# Altium footprint library PcbLib.PcbLib: 41 footprints (part 1 of 3)
Each footprint in its own frame and in the unit in brackets; x right, y up, seen from the top. Pads: shape width x height; smd on the part's side, far side on the other; paste and mask are expansions set on the pad; w line width, h text height; cw(c..) or ccw(c..) is an arc to the next point about the centre after c.
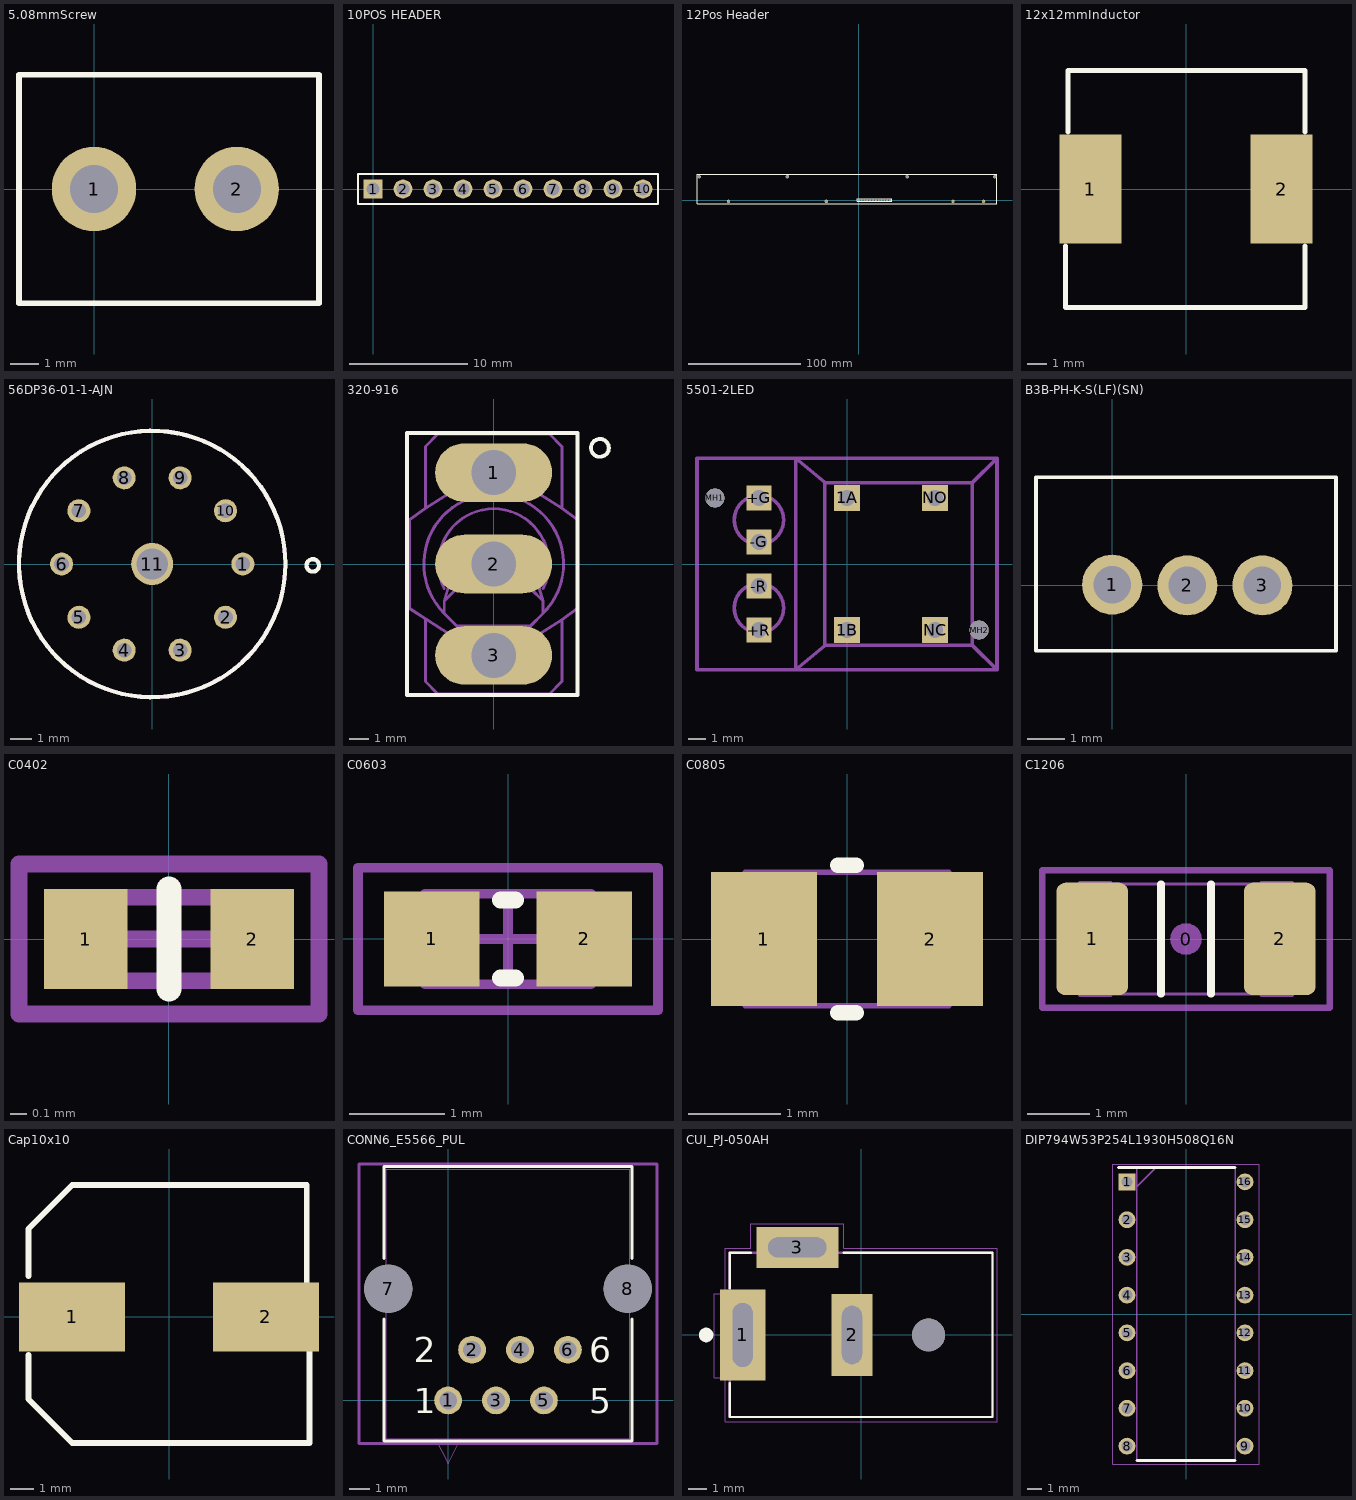
[diagram p0: the footprints below, top view; thin cyan lines are the x and y axes]

## 5.08mmScrew [mm]
pads (2):
  round 3 hole 1.7: 1(0,0) 2(5.08,0)
Top Overlay:
  lines w0.2: -2.667,-4.064 8.001,-4.064 8.001,4.064 -2.667,4.064 -2.667,-2.159 -2.667,-4.064
3D body "Schraubklemme_Blau_300V_16A_2P.stp": height 10.5, standoff -3.5, extent -2.668,-3.887 7.992,4.113

## 10POS HEADER [mm] "Connector; Header; 10 Position"
pads (10):
  rect 1.6x1.6 hole 1.1: 1(0,0)
  round 1.6 hole 1.1: 2(2.54,0) 3(5.08,0) 4(7.62,0) 5(10.16,0) 6(12.7,0) 7(15.24,0) 8(17.78,0) 9(20.32,0) 10(22.86,0)
Top Overlay:
  lines w0.2: -1.27,-1.27 -1.27,1.27 0.635,1.27 24.13,1.27 24.13,-1.27 -1.27,-1.27
3D body "Pin Header 1x10 TH Pitch 2.54mm.stp": height 9.5, standoff -3.2, extent -1.27,-1.27 24.13,1.27

## 12Pos Header [mm] "Connector; Header; 12 Position"
pads (20):
  rect 1.5x1.5 hole 0.9: 1(0,0)
  round 1.5 hole 0.9: 2(2.54,0) 3(5.08,0) 4(7.62,0) 5(10.16,0) 6(12.7,0) 7(15.24,0) 8(17.78,0) 9(20.32,0) 10(22.86,0) 11(25.4,0) 12(27.94,0)
  round 3 hole 2: ""(-141.883,20.841) ""(-115.883,-1.175) ""(-63.529,20.841) ""(-28.821,-1.175) ""(43.188,20.841) ""(83.963,-1.175) ""(111.117,-1.175) ""(121.117,20.841)
Top Overlay:
  lines w0.2: -143.891,-3.175 -143.891,5.715 -143.891,22.86 123.063,22.86 123.063,-3.175 -143.891,-3.175 ; -1.27,-1.27 -1.27,1.27 0.635,1.27 29.21,1.27 29.21,-1.27 -1.27,-1.27
3D body "button.step": height 18.6, standoff -0.5, extent -143.88,-3.16 123.12,22.856
3D body "Pin Header 1x12 TH Pitch 2.54mm.stp": height 9.5, standoff -3.2, extent -1.27,-1.27 29.21,1.27

## 12x12mmInductor [mm]
pads (2):
  rect 3.2x5.6 smd: 1(-4.95,0) 2(4.9,0)
Top Overlay:
  lines w0.254: -6.223,-2.921 -6.223,-6.096 6.096,-6.096 6.096,-2.921 ; -6.096,2.921 -6.096,6.096 6.096,6.096 6.096,2.921
3D body "WE-PD-1210.stp": height 10.43, standoff 0.05, extent -6,-6 6,6

## 56DP36-01-1-AJN [mm]
pads (11):
  round 1.1 hole 0.7: 1(4.32,0) 2(3.495,-2.539) 3(1.335,-4.109) 4(-1.335,-4.109) 5(-3.495,-2.539) 6(-4.32,0) 7(-3.495,2.539) 8(-1.335,4.109) 9(1.335,4.109) 10(3.495,2.539)
  round 2 hole 1.5: 11(0,0)
Top Overlay:
  circle w0.2: c7.655,-0.068 r0.297
  circle w0.2: c0,0 r6.35
Mechanical 13:
  circle w0.2: c0,0 r6.35
3D body "User Library-56 Series_Grayhill_Rotary Switch.STEP": height 25.59, standoff -2.65, extent -6.375,-6.35 6.375,6.35

## 320-916 [mil] "320-916"
pads (3):
  oval 237x118.5 / inner round 60 / far side oval 237x118.5 hole 90.55: 1(0,185.04) 2(0,0) 3(0,-185.04)
Top Overlay:
  circle w7.87: c215,235 r18.03
  lines w7.87: -175,-265 170,-265 170,265 -175,265 -175,30 -175,-265
Mechanical 3:
  lines w6: -138,-111 0,-200 138,-113 ; -138,113 0,200 138,113 ; -100,-50 cw(c0,0) 100,-50 ; -100,-100 cw(c0,0) 100,-100 ; -100,-100 -75,-125 75,-125 100,-100 ; -100,-100 -100,-75 ; -100,-75 -75,-50 75,-50 100,-75 ; -100,-75 -63,50 63,50 100,-75 ; 100,-100 100,-75
Mechanical 7:
  lines w6: -170,-90 -170,90 -138,113 -138,238 -113,263 113,263 138,238 138,113 170,90 170,-90 138,-113 138,-238 113,-263 -113,-263 -138,-238 -138,-111 -170,-90
3D body "5636ab.stp": height 1236.15, standoff -104.33, extent -166.6,-259.84 166.6,259.85

## 5501-2LED [mil] "5501-2LED"
pads (10):
  rect 59.06x59.06 / inner rect 60x60 / far side rect 59.06x59.06 hole 35.43: 1A(0,150) 1B(0,-150) NC(200,-150) NO(200,150)
  rect 56x56 / inner rect 60x60 / far side rect 56x56 hole 35.43: +G(-200,150) +R(-200,-150) -G(-200,50) -R(-200,-50)
  round 43.31 hole 43.31 unplated: MH1(-300,150) MH2(300,-150)
Mechanical 3:
  circle w8: c-200,100 r55.9
  circle w8: c-200,-100 r55.9
Mechanical 7:
  lines w8: -225,-150 cw(c-200,-100) -225,-50 ; -225,50 cw(c-200,100) -225,150 ; -175,-150 ccw(c-200,-100) -175,-50 ; -175,50 ccw(c-200,100) -175,150 ; -116.73,-240.16 -340.74,-240.16 -340.74,240.16 -116.73,240.16 ; -116.73,-240.16 340.74,-240.16 ; -116.73,-240.16 -116.73,240.16 ; -116.73,-240.16 -50,-185 ; -116.73,240.16 340.74,240.16 ; -116.73,240.16 -50,185 ; -50,-185 -50,185 ; -50,-185 285,-185 ; -50,185 285,185 ; 285,-185 340.74,-240.16 ; 285,-185 285,185 ; 285,185 340.74,240.16 ; 340.74,-240.16 340.74,240.16
3D body "SL-104-T-12.stp": height 97.69, standoff -92.31, extent -250,-200 -150,200
3D body "5501MBLKxxxxxx.stp": height 633.86, standoff -118.11, extent -344.49,-244.09 344.49,244.1

## B3B-PH-K-S(LF)(SN) [mm]
pads (3):
  round 1.6 hole 1: 1(0,0.02) 2(2,0) 3(4,0)
Top Overlay:
  lines w0.1: -2.03,-1.74 5.96,-1.74 5.96,2.88 -2.03,2.88 -2.03,1.55 -2.03,-1.74
3D body "User Library-B3B-PH-K-S(LF)(SN).STEP": height 6, standoff -3.4, extent -1.99,-1.67 5.91,2.83

## C0402 [mm]
height 0.4
pads (2):
  rect 0.5x0.6 smd mask+0.1: 1(-0.5,0) 2(0.5,0)
Top Overlay:
  lines w0.15: 0,-0.3 0,0.3
Mechanical 13:
  lines w0.1: -0.525,-0.25 0.525,-0.25 0.525,0.25 -0.525,0.25 -0.525,-0.25
Mechanical 15:
  lines w0.1: -0.25,0 0.25,0 ; 0,-0.25 0,0.25 ; -0.9,-0.45 0.9,-0.45 0.9,0.45 -0.9,0.45 -0.9,-0.45
3D body "User Library-Capacitor 0402.step": height 0.47, standoff -0.03, extent -0.5,-0.25 0.5,0.25

## C0603 [mm] "0603_095"
height 0.95
pads (2):
  rect 1x1 smd: 1(-0.8,0) 2(0.8,0)
Top Overlay:
  lines w0.18: -0.08,-0.41 0.08,-0.41 ; -0.08,0.41 0.08,0.41
Mechanical 5:
  lines w0.1: -0.875,-0.475 -0.875,0.475 0.875,0.475 0.875,-0.475 -0.875,-0.475
  text ".Designator" at -0.725,-0.2 h0.41
Mechanical 15:
  lines w0.1: -0.475,0 0.475,0 ; 0,-0.475 0,0.475 ; -1.575,-0.75 -1.575,0.75 1.575,0.75 1.575,-0.75 -1.575,-0.75
3D body "User Library-CerCaps 0603.step": height 0.81, standoff -0.01, extent -0.93,-0.412 0.93,0.413

## C0805 [mm] "0805 / 1.45mm height"
height 1.45
pads (2):
  rect 1.15x1.45 smd: 1(-0.9,0) 2(0.9,0)
Top Overlay:
  lines w0.17: -0.1,-0.8 0.1,-0.8 ; -0.1,0.8 0.1,0.8
Mechanical 5:
  lines w0.06: -1.1,-0.725 1.1,-0.725 1.1,0.725 -1.1,0.725 -1.1,-0.725
  text ".Designator" at -0.975,-0.3 h0.53
3D body "User Library-CerCaps 0805.step": height 1.26, standoff -0.01, extent -1.09,-0.637 1.09,0.638

## C1206 [mm] "Chip Capacitor, Body 3.2x1.6mm, 1.0mm H, EIA 1206, IPC Medium Density"
height 1
pads (3):
  round 0.508 on Mech15: 0(0,0)
  rrect25% 1.15x1.8 smd: 1(-1.5,0) 2(1.5,0)
Top Overlay:
  lines w0.127: -0.4,-0.876 -0.4,0.876 ; 0.4,-0.876 0.4,0.876
Mechanical 13:
  lines w0.05: -1.2,-0.88 1.2,-0.88 ; -1.2,0.88 1.2,0.88 ; -1.7,-0.9 -1.7,0.9 -1.2,0.9 -1.2,-0.9 -1.7,-0.9 ; 1.2,-0.9 1.2,0.9 1.7,0.9 1.7,-0.9 1.2,-0.9
Mechanical 15:
  lines w0.1: -2.3,-1.1 2.3,-1.1 2.3,1.1 -2.3,1.1 -2.3,-1.1
3D body "CAPC3216X100N - 1206 (3216 metric).STEP": height 1, standoff 0, extent -1.7,-0.9 1.7,0.9

## Cap10x10 [mm]
pads (2):
  rect 4.6x3 smd: 1(-4.2,0) 2(4.2,0)
Top Overlay:
  lines w0.254: -6.096,-1.651 -6.096,-3.556 -4.191,-5.461 6.096,-5.461 6.096,-1.397 ; -6.096,1.778 -6.096,3.81 -4.191,5.715 5.969,5.715 5.969,1.524
3D body "EEH-ZA1H101V.stp": height 10.5, standoff 0, extent -6,-5.123 6,5.377

## CONN6_E5566_PUL [mil]
pads (8):
  round 55 hole 35 mask+0: 1(0,0) 2(47.24,100) 3(94.49,0) 4(141.73,100) 5(188.98,0) 6(236.22,100)
  round 95 hole 95: 7(-118.11,220.47) 8(354.33,220.47)
Top Overlay:
  lines w6: -126.89,160.51 -126.89,-80.45 363.11,-80.45 363.11,160.51 ; -126.89,280.43 -126.89,461.55 363.11,461.55 363.11,280.43
  text "1" at -67.5,-25 h50
  text "2" at -67.5,75 h50
  text "5" at 278.72,-25 h50
  text "6" at 278.72,75 h50
Mechanical 13:
  lines w1: -25,-75.45 0,-125.45 25,-75.45 ; -121.89,-75.45 358.11,-75.45 358.11,456.55 -121.89,456.55 -121.89,-75.45
  text "1" at -67.5,-25 h50
  text "2" at -67.5,75 h50
  text "5" at 278.72,-25 h50
  text "6" at 278.72,75 h50
Mechanical 15:
  lines w6: -175.89,-85.45 412.11,-85.45 412.11,466.55 -175.89,466.55 -175.89,-85.45
3D body: height 10, standoff 0, extent 0,0 10,10
3D body "E5566-Q0LK22-L.stp": height 555.12, standoff -196.85, extent -164.36,-56.81 394.36,455

## CUI_PJ-050AH [mm]
pads (4):
  rect 2.5x5 hole 1.1 slot 3.5 at 90 deg: 1(-6.5,0)
  rect 2.25x4.5 hole 1.1 slot 3.2 at 90 deg: 2(-0.5,0)
  rect 4.5x2.25 hole 1.1 slot 3.2 at 0 deg: 3(-3.5,4.8)
  round 1.8 hole 1.8 unplated: ""(3.7,0)
Top Overlay:
  circle w0.4: c-8.5,0 r0.2
  lines w0.127: -7.2,-2.65 -7.2,-4.5 7.2,-4.5 7.2,4.5 -0.95,4.5 ; -7.2,2.55 -7.2,4.5 -6.05,4.5
Mechanical 13:
  lines w0.127: -7.2,-4.5 -7.2,4.5 7.2,4.5 7.2,-4.5 -7.2,-4.5
Mechanical 15:
  lines w0.05: -8.05,-2.35 -7.45,-2.35 -7.45,-4.75 7.45,-4.75 7.45,4.75 -0.95,4.75 -0.95,6.1 -6.05,6.1 -6.05,4.75 -7.45,4.75 -7.45,2.25 -8.05,2.25 -8.05,-2.35
3D body "DCJ200-10-A-K1-K--3DModel-STEP-56544.STEP": height 11, standoff -3.5, extent -7.116,-4.685 7.184,4.865

## DIP794W53P254L1930H508Q16N [mm]
pads (16):
  rect 1.13x1.13 hole 0.73: 1(-3.97,8.89)
  round 1.13 hole 0.73: 2(-3.97,6.35) 3(-3.97,3.81) 4(-3.97,1.27) 5(-3.97,-1.27) 6(-3.97,-3.81) 7(-3.97,-6.35) 8(-3.97,-8.89) 9(3.97,-8.89) 10(3.97,-6.35) 11(3.97,-3.81) 12(3.97,-1.27) 13(3.97,1.27) 14(3.97,3.81) 15(3.97,6.35) 16(3.97,8.89)
Top Overlay:
  lines w0.2: -4.535,9.845 3.3,9.845 ; -3.3,-9.845 3.3,-9.845
Mechanical 13:
  lines w0.1: -3.3,8.575 -2.03,9.845 ; -3.3,-9.845 3.3,-9.845 3.3,9.845 -3.3,9.845 -3.3,-9.845
Mechanical 15:
  lines w0.05: -4.945,-10.095 4.945,-10.095 4.945,10.095 -4.945,10.095 -4.945,-10.095
3D body "SN74HC595NE4.stp": height 5.08, standoff -3.5, extent -4.102,-9.653 4.102,9.653